# EAGLE library part RASPBERRYPI3MODELB+ (library FaBo-PIN)
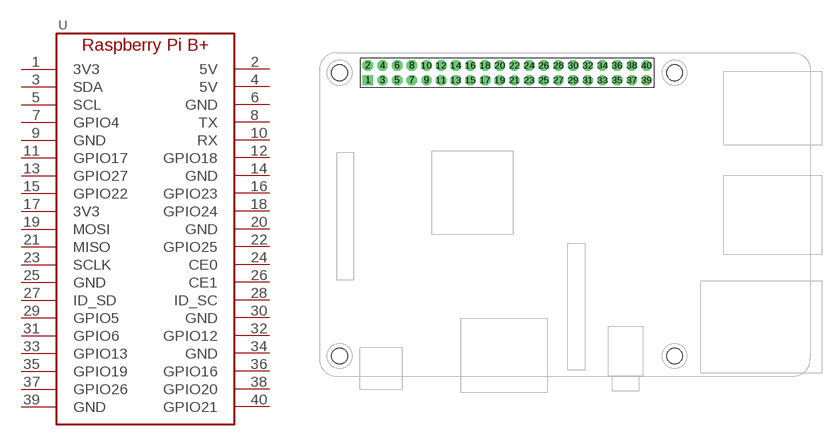
[diagram p22: symbol with the pads of RASPBERRYPI_GPIO; footprint RASPBERRYPI_GPIO]

Designator prefix U

## RASPBERRYPI3MODELB+  [RASPBERRYPI_GPIO]
1  3V3
2  5V
3  SDA
4  5V
5  SCL
6  GND
7  GPIO4
8  TX
9  GND
10  RX
11  GPIO17
12  GPIO18
13  GPIO27
14  GND
15  GPIO22
16  GPIO23
17  3V3
18  GPIO24
19  MOSI
20  GND
21  MISO
22  GPIO25
23  SCLK
24  CE0
25  GND
26  CE1
27  ID_SD
28  ID_SC
29  GPIO5
30  GND
31  GPIO6
32  GPIO12
33  GPIO13
34  GND
35  GPIO19
36  GPIO16
37  GPIO26
38  GPIO20
39  GND
40  GPIO21

## Footprint RASPBERRYPI_GPIO (pad centres in mm)
drill 1 pad 1.778 square: 1 0,-2.54
drill 1 pad 1.778 octagon: 2 0,0; 3 2.54,-2.54; 4 2.54,0; 5 5.08,-2.54; 6 5.08,0; 7 7.62,-2.54; 8 7.62,0; 9 10.16,-2.54; 10 10.16,0; 11 12.7,-2.54; 12 12.7,0; 13 15.24,-2.54; 14 15.24,0; 15 17.78,-2.54; 16 17.78,0; 17 20.32,-2.54; 18 20.32,0; 19 22.86,-2.54; 20 22.86,0; 21 25.4,-2.54; 22 25.4,0; 23 27.94,-2.54; 24 27.94,0; 25 30.48,-2.54; 26 30.48,0; 27 33.02,-2.54; 28 33.02,0; 29 35.56,-2.54; 30 35.56,0; 31 38.1,-2.54; 32 38.1,0; 33 40.64,-2.54; 34 40.64,0; 35 43.18,-2.54; 36 43.18,0; 37 45.72,-2.54; 38 45.72,0; 39 48.26,-2.54; 40 48.26,0